# EAGLE library part MATRIX-8X8-BICOLOR (library Ai_LED)
Futurlec 8x8 LED Matrix
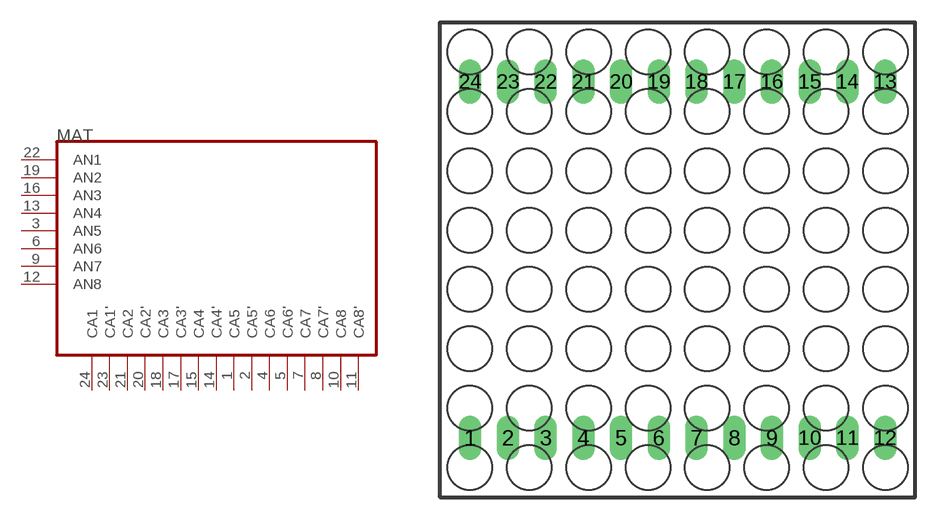
[diagram p0: symbol with the pads of NFM-12881BG-11; footprint NFM-12881BG-11]

Designator prefix MAT

## MATRIX-8X8-BICOLOR  [NFM-12881BG-11]
1  CA5  out
2  CA5'  out
3  AN5  in
4  CA6  out
5  CA6'  out
6  AN6  in
7  CA7  out
8  CA7'  out
9  AN7  in
10  CA8  out
11  CA8'  out
12  AN8  in
13  AN4  in
14  CA4'  out
15  CA4  out
16  AN3  in
17  CA3'  out
18  CA3  out
19  AN2  in
20  CA2'  out
21  CA2  out
22  AN1  in
23  CA1'  out
24  CA1  out

## Footprint NFM-12881BG-11 (pad centres in mm)
NFM-12881 Single Colour 8x8 LED Matrix Available from - Futurlec (LEDM88G)
drill 1 long: 1 -13.97,-12; 2 -11.43,-12; 3 -8.89,-12; 4 -6.35,-12; 5 -3.81,-12; 6 -1.27,-12; 7 1.27,-12; 8 3.81,-12; 9 6.35,-12; 10 8.89,-12; 11 11.43,-12; 12 13.97,-12; 13 13.97,12; 14 11.43,12; 15 8.89,12; 16 6.35,12; 17 3.81,12; 18 1.27,12; 19 -1.27,12; 20 -3.81,12; 21 -6.35,12; 22 -8.89,12; 23 -11.43,12; 24 -13.97,12